# Altium footprint library test_lib.PcbLib: 32 footprints (part 1 of 3)
Each footprint in its own frame and in the unit in brackets; x right, y up, seen from the top. Pads: shape width x height; smd on the part's side, far side on the other; paste and mask are expansions set on the pad; w line width, h text height; cw(c..) or ccw(c..) is an arc to the next point about the centre after c.
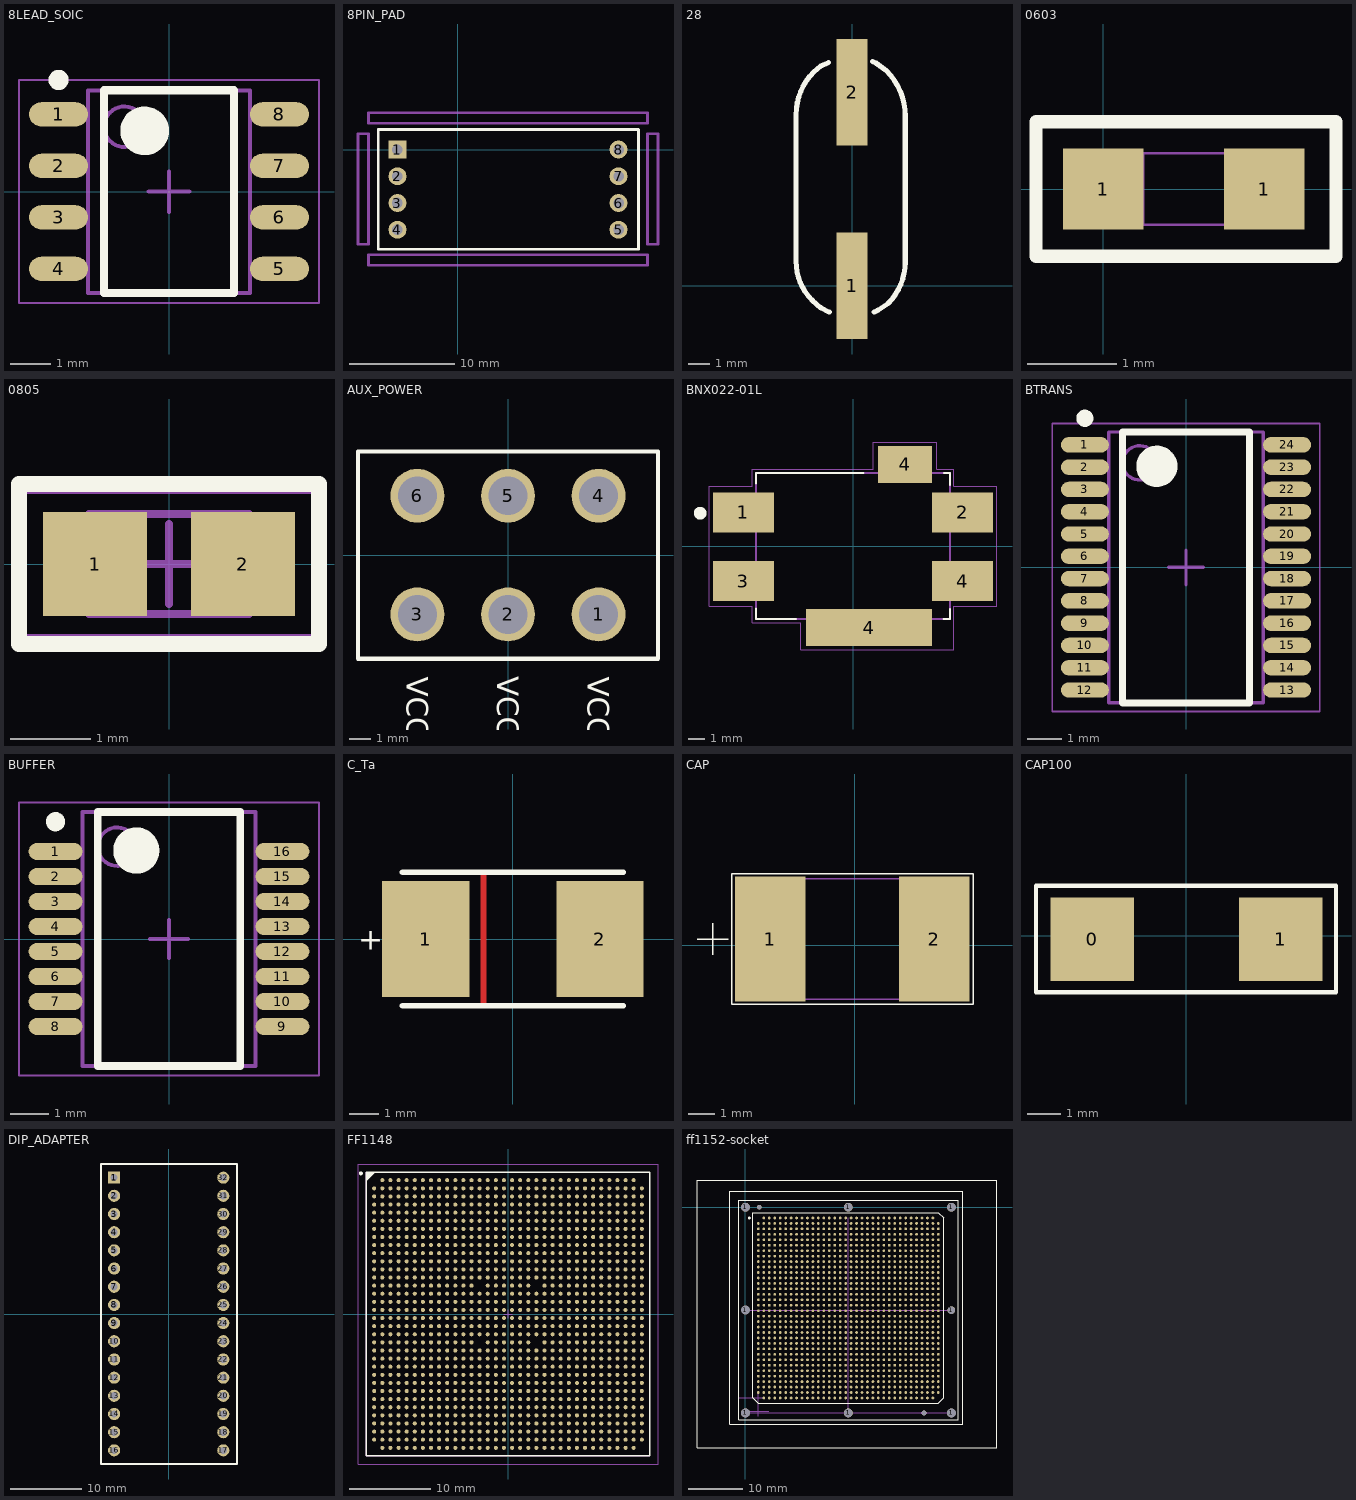
[diagram p0: the footprints below, top view; thin cyan lines are the x and y axes]

## 8LEAD_SOIC [mm] "8LEAD SOIC ANALOG DEVICES"
height 1.75
pads (8):
  oval 1.45x0.6 smd: 1(-2.725,1.905) 2(-2.725,0.635) 3(-2.725,-0.635) 4(-2.725,-1.905) 5(2.725,-1.905) 6(2.725,-0.635) 7(2.725,0.635) 8(2.725,1.905)
Top Overlay:
  circle w0.6: c-0.6,1.5 r0.3
  circle w0.25: c-2.725,2.755 r0.125
  lines w0.2: -1.6,-2.5 1.6,-2.5 1.6,2.5 -1.6,2.5 -1.6,-2.5
Mechanical 13:
  circle w0.1: c-1.1,1.6 r0.5
  lines w0.1: -2,-2.5 2,-2.5 2,2.5 -2,2.5 -2,-2.5
Mechanical 15:
  lines w0.05: -3.7,-2.75 3.7,-2.75 3.7,2.75 -3.7,2.75 -3.7,-2.75
  lines w0.1: -0.5,0 0.5,0 ; 0,-0.5 0,0.5
3D body: height 1.75, standoff 0.1, extent -2,-2.5 2,2.5

## 8PIN_PAD [mm]
pads (8):
  rect 1.7x1.7 hole 1: 1(-5.75,0)
  round 1.7 hole 1: 2(-5.75,-2.54) 3(-5.75,-5.08) 4(-5.75,-7.62) 5(15.25,-7.62) 6(15.25,-5.08) 7(15.25,-2.54) 8(15.25,0)
Top Overlay:
  lines w0.254: -7.575,-9.475 -1.825,-9.475 15.78,-9.475 17.155,-9.475 17.155,1.905 -1.825,1.905 -7.575,1.905 -7.575,-9.475
Mechanical 1:
  lines w0.254: -9.5,-9 -8.5,-9 -8.5,1.5 -9.5,1.5 -9.5,-9 ; -8.5,-11 18,-11 18,-10 -8.5,-10 -8.5,-11 ; -8.5,2.5 -8.5,3.5 18,3.5 18,2.5 -8.5,2.5 ; 18,-9 18,1.5 19,1.5 19,-9 18,-9

## 28 [mm]
height 3.5
pads (2):
  rect 1.45x4.95 smd: 1(0,0) 2(0,9)
Top Overlay:
  lines w0.24: -2.6,2.775 -2.6,7.958 cw(c0.217,7.958) -1.775,9.95 -1.45,10.225 -1.1,10.375 ; -2.6,2.85 -2.6,1.136 ccw(c-0.039,1.136) -1.85,-0.675 -1.45,-1.025 -1.05,-1.225 ; 0.95,10.425 1.125,10.35 1.6,10 cw(c-0.512,7.888) 2.475,7.888 2.475,5.05 2.475,1.106 cw(c-0.256,1.106) 1.675,-0.825 1.225,-1.125 1.025,-1.225

## 0603 [mm] "0603 footprint"
pads (2):
  rect 0.9x0.9 smd: 1(0,0)
  rect 0.9x0.9 smd mask+0.102: 1(1.8,0)
Top Overlay:
  lines w0.15: -0.75,-0.75 -0.75,0.75 2.6,0.75 2.6,0.375 2.6,-0.375 2.6,-0.75 -0.75,-0.75
Mechanical 1:
  lines w0.025: 0.15,0.4 0.15,-0.4 1.75,-0.4 1.75,0.4 0.16,0.4 ; 1.46,-0.4 1.46,0.4
Mechanical 2:
  lines w0.025: 0.45,-0.4 0.45,0.4

## 0805 [mm]
height 0.4
pads (2):
  rect 1.3x1.3 smd: 1(-0.925,0) 2(0.925,0)
Top Overlay:
  lines w0.2: -1.875,-1 -1.875,1 1.875,1 1.875,-1 -1.875,-1
Mechanical 13:
  lines w0.1: -1,-0.625 1,-0.625 1,0.625 -1,0.625 -1,-0.625
Mechanical 15:
  lines w0.05: -1.825,-0.9 1.825,-0.9 1.825,0.9 -1.825,0.9 -1.825,-0.9
  lines w0.1: -0.5,0 0.5,0 ; 0,-0.5 0,0.5
3D body: height 0.4, standoff 0, extent -1,-0.625 1,0.625

## AUX_POWER [mm] "auxiliary power port"
pads (6):
  round 2.5 hole 1.8: 1(4.2,-2.75) 2(0,-2.75) 3(-4.2,-2.75) 4(4.2,2.75) 5(0,2.75) 6(-4.2,2.75)
Top Overlay:
  lines w0.2: -6.95,-4.8 -6.95,4.8 6.95,4.8 6.95,-4.8 -6.95,-4.8
  text "VCC1" at 3.7,-5.625 h1
  text "VCC2" at -0.5,-5.625 h1
  text "VCC3-" at -4.7,-5.625 h1

## BNX022-01L [mm] "emi suppression filter"
pads (6):
  rect 3.8x2.5 smd: 1(-6.85,2.1) 2(6.85,2.1) 3(-6.85,-2.2) 4(6.85,-2.2)
  rect 7.9x2.3 smd: 4(1,-5.1)
  rect 3.4x2.3 smd: 4(3.25,5.1)
Top Overlay:
  circle w0.4: c-9.55,2.05 r0.2
  lines w0.127: -6.05,-3.9 -6.05,-4.55 -3.55,-4.55 ; -6.05,3.9 -6.05,4.55 0.65,4.55 ; 5.65,-4.55 6.05,-4.55 6.05,-3.95 ; 5.7,4.55 6.05,4.55 6.05,3.8
Top Solder:
  region: 1.552,6.25 4.95,6.25 4.95,3.955 1.552,3.955
  region: 4.959,3.35 8.75,3.35 8.75,0.851 4.959,0.851
  region: 4.956,-0.95 8.75,-0.95 8.75,-3.454 4.956,-3.454
  region: -2.953,-3.95 4.95,-3.95 4.95,-6.256 -2.953,-6.256
  region: -8.75,-0.95 -4.95,-0.95 -4.95,-3.45 -8.75,-3.45
  region: -8.757,3.35 -4.95,3.35 -4.95,0.851 -8.757,0.851
Mechanical 4:
  lines w0.127: -6.05,-4.55 6.05,-4.55 ; -6.05,-4.55 -6.05,4.55 ; -6.05,-4.55 6.05,-4.55 ; -6.05,-4.55 -6.05,4.55 ; -6.05,4.55 6.05,4.55 ; -6.05,4.55 6.05,4.55 ; 6.05,-4.55 6.05,4.55 ; 6.05,-4.55 6.05,4.55
Mechanical 16:
  lines w0.05: -9,-3.75 -9,3.75 -6.3,3.75 -6.3,4.8 1.25,4.8 1.25,6.5 5.25,6.5 5.25,4.8 6.3,4.8 6.3,3.75 9,3.75 9,-3.75 6.3,-3.75 6.3,-6.5 -3.25,-6.5 -3.25,-4.8 -6.3,-4.8 -6.3,-3.75 -9,-3.75
3D body "User Library-BNX022.step": height 3.1, standoff 0, extent -6.05,-4.55 6.05,4.55

## BTRANS [mm]
height 1.2
pads (24):
  oval 1.4x0.45 smd: 1(-2.95,3.575) 2(-2.95,2.925) 3(-2.95,2.275) 4(-2.95,1.625) 5(-2.95,0.975) 6(-2.95,0.325) 7(-2.95,-0.325) 8(-2.95,-0.975) 9(-2.95,-1.625) 10(-2.95,-2.275) 11(-2.95,-2.925) 12(-2.95,-3.575) 13(2.95,-3.575) 14(2.95,-2.925) 15(2.95,-2.275) 16(2.95,-1.625) 17(2.95,-0.975) 18(2.95,-0.325) 19(2.95,0.325) 20(2.95,0.975) 21(2.95,1.625) 22(2.95,2.275) 23(2.95,2.925) 24(2.95,3.575)
Top Overlay:
  circle w0.25: c-2.95,4.35 r0.125
  circle w0.6: c-0.85,2.95 r0.3
  lines w0.2: -1.85,-3.95 -1.85,3.95 1.85,3.95 1.85,-3.95 -1.85,-3.95
Mechanical 13:
  circle w0.1: c-1.35,3.05 r0.5
  lines w0.1: -2.25,-3.95 -2.25,3.95 2.25,3.95 2.25,-3.95 -2.25,-3.95
Mechanical 15:
  lines w0.05: -3.9,-4.2 -3.9,4.2 3.9,4.2 3.9,-4.2 -3.9,-4.2
  lines w0.1: -0.5,0 0.5,0 ; 0,-0.5 0,0.5
3D body: height 1.2, standoff 0.05, extent -2.25,-3.95 2.25,3.95

## BUFFER [mm] "txs0108epwr voltage translator"
height 1.2
pads (16):
  oval 1.4x0.45 smd: 1(-2.95,2.275) 2(-2.95,1.625) 3(-2.95,0.975) 4(-2.95,0.325) 5(-2.95,-0.325) 6(-2.95,-0.975) 7(-2.95,-1.625) 8(-2.95,-2.275) 9(2.95,-2.275) 10(2.95,-1.625) 11(2.95,-0.975) 12(2.95,-0.325) 13(2.95,0.325) 14(2.95,0.975) 15(2.95,1.625) 16(2.95,2.275)
Top Overlay:
  circle w0.25: c-2.95,3.05 r0.125
  circle w0.6: c-0.85,2.3 r0.3
  lines w0.2: -1.85,-3.3 -1.85,3.3 1.85,3.3 1.85,-3.3 -1.85,-3.3
Mechanical 13:
  circle w0.1: c-1.35,2.4 r0.5
  lines w0.1: -2.25,-3.3 -2.25,3.3 2.25,3.3 2.25,-3.3 -2.25,-3.3
Mechanical 15:
  lines w0.05: -3.9,-3.55 -3.9,3.55 3.9,3.55 3.9,-3.55 -3.9,-3.55
  lines w0.1: -0.5,0 0.5,0 ; 0,-0.5 0,0.5
3D body: height 1.2, standoff 0.15, extent -2.25,-3.3 2.25,3.3

## C_Ta [mm]
pads (2):
  rect 3x4 smd: 1(-3,0) 2(3,0)
Top Layer:
  lines w0.2: -1.016,-2.159 -1.016,2.159
Top Overlay:
  lines w0.2: -3.8,-2.3 3.8,-2.3 ; -3.8,2.3 3.8,2.3
  text "+" at -5.334,-0.375 h0.75
3D body "CAPMP7343X430N.stp": height 4.3, standoff 0, extent -3.8,-2.3 3.8,2.3

## CAP [mm]
pads (2):
  rect 2.7x4.8 smd: 1(-3.238,0.24) 2(3.062,0.24)
Top Overlay:
  lines w0.05: -6.038,0.24 -4.838,0.24 ; -5.438,-0.36 -5.438,0.84 ; -4.698,-2.26 -4.698,2.74 4.552,2.74 4.552,-2.26 -4.698,-2.26
Mechanical 1:
  lines w0.05: -3.788,-2.06 -3.788,2.54 3.612,2.54 3.612,-2.06 -3.788,-2.06

## CAP100 [mm]
pads (2):
  rect 2.5x2.5 smd: 0(-2.812,-0.111) 1(2.838,-0.111)
Top Layer:
  lines w0.5: 2.236,-0.111 2.838,-0.111 2.838,-0.913
Top Overlay:
  lines w0.125: -4.5,-1.7 -4.5,1.5 4.5,1.5 4.5,-1.7 -4.5,-1.7

## DIP_ADAPTER [mm]
pads (32):
  rect 1.7x1.7 hole 1: 1(-7.625,19.1)
  round 1.7 hole 1: 2(-7.625,16.56) 3(-7.625,14.02) 4(-7.625,11.48) 5(-7.625,8.94) 6(-7.625,6.4) 7(-7.625,3.86) 8(-7.625,1.32) 9(-7.625,-1.22) 10(-7.625,-3.76) 11(-7.625,-6.3) 12(-7.625,-8.84) 13(-7.625,-11.38) 14(-7.625,-13.92) 15(-7.625,-16.46) 16(-7.625,-19) 17(7.625,-19) 18(7.625,-16.46) 19(7.625,-13.92) 20(7.625,-11.38) 21(7.625,-8.84) 22(7.625,-6.3) 23(7.625,-3.76) 24(7.625,-1.22) 25(7.625,1.32) 26(7.625,3.86) 27(7.625,6.4) 28(7.625,8.94) 29(7.625,11.48) 30(7.625,14.02) 31(7.625,16.56) 32(7.625,19.1)
Top Overlay:
  lines w0.254: -9.45,-20.905 9.53,-20.905 9.53,21.005 -9.45,21.005 -9.45,-20.905

## FF1148 [mm] "1148-Ball Flip Chip Fine Pitch Ball Grid Array (FF1148)"
height 3.4
pads (1148):
  round 0.5 smd: A2(-15.5,16.5) A3(-14.5,16.5) A4(-13.5,16.5) A5(-12.5,16.5) A6(-11.5,16.5) A7(-10.5,16.5) A8(-9.5,16.5) A9(-8.5,16.5) A10(-7.5,16.5) A11(-6.5,16.5) A12(-5.5,16.5) A13(-4.5,16.5) A14(-3.5,16.5) A15(-2.5,16.5) A16(-1.5,16.5) A17(-0.5,16.5) A18(0.5,16.5) A19(1.5,16.5) A20(2.5,16.5) A21(3.5,16.5) A22(4.5,16.5) A23(5.5,16.5) A24(6.5,16.5) A25(7.5,16.5) A26(8.5,16.5) A27(9.5,16.5) A28(10.5,16.5) A29(11.5,16.5) A30(12.5,16.5) A31(13.5,16.5) A32(14.5,16.5) A33(15.5,16.5) AA1(-16.5,-3.5) AA2(-15.5,-3.5) AA3(-14.5,-3.5) AA4(-13.5,-3.5) AA5(-12.5,-3.5) AA6(-11.5,-3.5) AA7(-10.5,-3.5) AA8(-9.5,-3.5) AA9(-8.5,-3.5) AA10(-7.5,-3.5) AA11(-6.5,-3.5) AA12(-5.5,-3.5) AA13(-4.5,-3.5) AA15(-2.5,-3.5) AA16(-1.5,-3.5) AA17(-0.5,-3.5) AA18(0.5,-3.5) AA19(1.5,-3.5) AA20(2.5,-3.5) AA22(4.5,-3.5) AA23(5.5,-3.5) AA24(6.5,-3.5) AA25(7.5,-3.5) AA26(8.5,-3.5) AA27(9.5,-3.5) AA28(10.5,-3.5) AA29(11.5,-3.5) AA30(12.5,-3.5) AA31(13.5,-3.5) AA32(14.5,-3.5) AA33(15.5,-3.5) AA34(16.5,-3.5) AB1(-16.5,-4.5) AB2(-15.5,-4.5) AB3(-14.5,-4.5) AB4(-13.5,-4.5) AB5(-12.5,-4.5) AB6(-11.5,-4.5) AB7(-10.5,-4.5) AB8(-9.5,-4.5) AB9(-8.5,-4.5) AB10(-7.5,-4.5) AB11(-6.5,-4.5) AB12(-5.5,-4.5) AB13(-4.5,-4.5) AB14(-3.5,-4.5) AB15(-2.5,-4.5) AB16(-1.5,-4.5) AB17(-0.5,-4.5) AB18(0.5,-4.5) AB19(1.5,-4.5) AB20(2.5,-4.5) AB21(3.5,-4.5) AB22(4.5,-4.5) AB23(5.5,-4.5) AB24(6.5,-4.5) AB25(7.5,-4.5) AB26(8.5,-4.5) AB27(9.5,-4.5) AB28(10.5,-4.5) AB29(11.5,-4.5) AB30(12.5,-4.5) AB31(13.5,-4.5) AB32(14.5,-4.5) AB33(15.5,-4.5) AB34(16.5,-4.5) AC1(-16.5,-5.5) AC2(-15.5,-5.5) AC3(-14.5,-5.5) AC4(-13.5,-5.5) AC5(-12.5,-5.5) AC6(-11.5,-5.5) AC7(-10.5,-5.5) AC8(-9.5,-5.5) AC9(-8.5,-5.5) AC10(-7.5,-5.5) AC11(-6.5,-5.5) AC12(-5.5,-5.5) AC13(-4.5,-5.5) AC14(-3.5,-5.5) AC15(-2.5,-5.5) AC16(-1.5,-5.5) AC17(-0.5,-5.5) AC18(0.5,-5.5) AC19(1.5,-5.5) AC20(2.5,-5.5) AC21(3.5,-5.5) AC22(4.5,-5.5) AC23(5.5,-5.5) AC24(6.5,-5.5) AC25(7.5,-5.5) AC26(8.5,-5.5) AC27(9.5,-5.5) AC28(10.5,-5.5) AC29(11.5,-5.5) AC30(12.5,-5.5) AC31(13.5,-5.5) AC32(14.5,-5.5) AC33(15.5,-5.5) AC34(16.5,-5.5) AD1(-16.5,-6.5) AD2(-15.5,-6.5) AD3(-14.5,-6.5) AD4(-13.5,-6.5) AD5(-12.5,-6.5) AD6(-11.5,-6.5) AD7(-10.5,-6.5) AD8(-9.5,-6.5) AD9(-8.5,-6.5) AD10(-7.5,-6.5) AD11(-6.5,-6.5) AD12(-5.5,-6.5) AD13(-4.5,-6.5) AD14(-3.5,-6.5) AD15(-2.5,-6.5) AD16(-1.5,-6.5) AD17(-0.5,-6.5) AD18(0.5,-6.5) AD19(1.5,-6.5) AD20(2.5,-6.5) AD21(3.5,-6.5) AD22(4.5,-6.5) AD23(5.5,-6.5) AD24(6.5,-6.5) AD25(7.5,-6.5) AD26(8.5,-6.5) AD27(9.5,-6.5) AD28(10.5,-6.5) AD29(11.5,-6.5) AD30(12.5,-6.5) AD31(13.5,-6.5) AD32(14.5,-6.5) AD33(15.5,-6.5) AD34(16.5,-6.5) AE1(-16.5,-7.5) AE2(-15.5,-7.5) AE3(-14.5,-7.5) AE4(-13.5,-7.5) AE5(-12.5,-7.5) AE6(-11.5,-7.5) AE7(-10.5,-7.5) AE8(-9.5,-7.5) AE9(-8.5,-7.5) AE10(-7.5,-7.5) AE11(-6.5,-7.5) AE12(-5.5,-7.5) AE13(-4.5,-7.5) AE14(-3.5,-7.5) AE15(-2.5,-7.5) AE16(-1.5,-7.5) AE17(-0.5,-7.5) AE18(0.5,-7.5) AE19(1.5,-7.5) AE20(2.5,-7.5) AE21(3.5,-7.5) AE22(4.5,-7.5) AE23(5.5,-7.5) AE24(6.5,-7.5) AE25(7.5,-7.5) AE26(8.5,-7.5) AE27(9.5,-7.5) AE28(10.5,-7.5) AE29(11.5,-7.5) AE30(12.5,-7.5) AE31(13.5,-7.5) AE32(14.5,-7.5) AE33(15.5,-7.5) AE34(16.5,-7.5) AF1(-16.5,-8.5) AF2(-15.5,-8.5) AF3(-14.5,-8.5) AF4(-13.5,-8.5) AF5(-12.5,-8.5) AF6(-11.5,-8.5) AF7(-10.5,-8.5) AF8(-9.5,-8.5) AF9(-8.5,-8.5) AF10(-7.5,-8.5) AF11(-6.5,-8.5) AF12(-5.5,-8.5) AF13(-4.5,-8.5) AF14(-3.5,-8.5) AF15(-2.5,-8.5) AF16(-1.5,-8.5) AF17(-0.5,-8.5) AF18(0.5,-8.5) AF19(1.5,-8.5) AF20(2.5,-8.5) AF21(3.5,-8.5) AF22(4.5,-8.5) AF23(5.5,-8.5) AF24(6.5,-8.5) AF25(7.5,-8.5) AF26(8.5,-8.5) AF27(9.5,-8.5) AF28(10.5,-8.5) AF29(11.5,-8.5) AF30(12.5,-8.5) AF31(13.5,-8.5) AF32(14.5,-8.5) AF33(15.5,-8.5) AF34(16.5,-8.5) AG1(-16.5,-9.5) AG2(-15.5,-9.5) AG3(-14.5,-9.5) AG4(-13.5,-9.5) AG5(-12.5,-9.5) AG6(-11.5,-9.5) AG7(-10.5,-9.5) AG8(-9.5,-9.5) AG9(-8.5,-9.5) AG10(-7.5,-9.5) AG11(-6.5,-9.5) AG12(-5.5,-9.5) AG13(-4.5,-9.5) AG14(-3.5,-9.5) AG15(-2.5,-9.5) AG16(-1.5,-9.5) AG17(-0.5,-9.5) AG18(0.5,-9.5) AG19(1.5,-9.5) AG20(2.5,-9.5) AG21(3.5,-9.5) AG22(4.5,-9.5) AG23(5.5,-9.5) AG24(6.5,-9.5) AG25(7.5,-9.5) AG26(8.5,-9.5) AG27(9.5,-9.5) AG28(10.5,-9.5) AG29(11.5,-9.5) AG30(12.5,-9.5) AG31(13.5,-9.5) AG32(14.5,-9.5) AG33(15.5,-9.5) AG34(16.5,-9.5) AH1(-16.5,-10.5) AH2(-15.5,-10.5) AH3(-14.5,-10.5) AH4(-13.5,-10.5) AH5(-12.5,-10.5) AH6(-11.5,-10.5) AH7(-10.5,-10.5) AH8(-9.5,-10.5) AH9(-8.5,-10.5) AH10(-7.5,-10.5) AH11(-6.5,-10.5) AH12(-5.5,-10.5) AH13(-4.5,-10.5) AH14(-3.5,-10.5) AH15(-2.5,-10.5) AH16(-1.5,-10.5) AH17(-0.5,-10.5) AH18(0.5,-10.5) AH19(1.5,-10.5) AH20(2.5,-10.5) AH21(3.5,-10.5) AH22(4.5,-10.5) AH23(5.5,-10.5) AH24(6.5,-10.5) AH25(7.5,-10.5) AH26(8.5,-10.5) AH27(9.5,-10.5) AH28(10.5,-10.5) AH29(11.5,-10.5) AH30(12.5,-10.5) AH31(13.5,-10.5) AH32(14.5,-10.5) AH33(15.5,-10.5) AH34(16.5,-10.5) AJ1(-16.5,-11.5) AJ2(-15.5,-11.5) AJ3(-14.5,-11.5) AJ4(-13.5,-11.5) AJ5(-12.5,-11.5) AJ6(-11.5,-11.5) AJ7(-10.5,-11.5) AJ8(-9.5,-11.5) AJ9(-8.5,-11.5) AJ10(-7.5,-11.5) AJ11(-6.5,-11.5) AJ12(-5.5,-11.5) AJ13(-4.5,-11.5) AJ14(-3.5,-11.5) AJ15(-2.5,-11.5) AJ16(-1.5,-11.5) AJ17(-0.5,-11.5) AJ18(0.5,-11.5) AJ19(1.5,-11.5) AJ20(2.5,-11.5) AJ21(3.5,-11.5) AJ22(4.5,-11.5) AJ23(5.5,-11.5) AJ24(6.5,-11.5) AJ25(7.5,-11.5) AJ26(8.5,-11.5) AJ27(9.5,-11.5) AJ28(10.5,-11.5) AJ29(11.5,-11.5) AJ30(12.5,-11.5) AJ31(13.5,-11.5) AJ32(14.5,-11.5) AJ33(15.5,-11.5) AJ34(16.5,-11.5) AK1(-16.5,-12.5) AK2(-15.5,-12.5) AK3(-14.5,-12.5) AK4(-13.5,-12.5) AK5(-12.5,-12.5) AK6(-11.5,-12.5) AK7(-10.5,-12.5) AK8(-9.5,-12.5) AK9(-8.5,-12.5) AK10(-7.5,-12.5) AK11(-6.5,-12.5) AK12(-5.5,-12.5) AK13(-4.5,-12.5) AK14(-3.5,-12.5) AK15(-2.5,-12.5) AK16(-1.5,-12.5) AK17(-0.5,-12.5) AK18(0.5,-12.5) AK19(1.5,-12.5) AK20(2.5,-12.5) AK21(3.5,-12.5) AK22(4.5,-12.5) AK23(5.5,-12.5) AK24(6.5,-12.5) AK25(7.5,-12.5) AK26(8.5,-12.5) AK27(9.5,-12.5) AK28(10.5,-12.5) AK29(11.5,-12.5) AK30(12.5,-12.5) AK31(13.5,-12.5) AK32(14.5,-12.5) AK33(15.5,-12.5) AK34(16.5,-12.5) AL1(-16.5,-13.5) AL2(-15.5,-13.5) AL3(-14.5,-13.5) AL4(-13.5,-13.5) AL5(-12.5,-13.5) AL6(-11.5,-13.5) AL7(-10.5,-13.5) AL8(-9.5,-13.5) AL9(-8.5,-13.5) AL10(-7.5,-13.5) AL11(-6.5,-13.5) AL12(-5.5,-13.5) AL13(-4.5,-13.5) AL14(-3.5,-13.5) AL15(-2.5,-13.5) AL16(-1.5,-13.5) AL17(-0.5,-13.5) AL18(0.5,-13.5) AL19(1.5,-13.5) AL20(2.5,-13.5) AL21(3.5,-13.5) AL22(4.5,-13.5) AL23(5.5,-13.5) AL24(6.5,-13.5) AL25(7.5,-13.5) AL26(8.5,-13.5) AL27(9.5,-13.5) AL28(10.5,-13.5) AL29(11.5,-13.5) AL30(12.5,-13.5) AL31(13.5,-13.5) AL32(14.5,-13.5) AL33(15.5,-13.5) AL34(16.5,-13.5) AM1(-16.5,-14.5) AM2(-15.5,-14.5) AM3(-14.5,-14.5) AM4(-13.5,-14.5) AM5(-12.5,-14.5) AM6(-11.5,-14.5) AM7(-10.5,-14.5) AM8(-9.5,-14.5) AM9(-8.5,-14.5) AM10(-7.5,-14.5) AM11(-6.5,-14.5) AM12(-5.5,-14.5) AM13(-4.5,-14.5) AM14(-3.5,-14.5) AM15(-2.5,-14.5) AM16(-1.5,-14.5) AM17(-0.5,-14.5) AM18(0.5,-14.5) AM19(1.5,-14.5) AM20(2.5,-14.5) AM21(3.5,-14.5) AM22(4.5,-14.5) AM23(5.5,-14.5) AM24(6.5,-14.5) AM25(7.5,-14.5) AM26(8.5,-14.5) AM27(9.5,-14.5) AM28(10.5,-14.5) AM29(11.5,-14.5) AM30(12.5,-14.5) AM31(13.5,-14.5) AM32(14.5,-14.5) AM33(15.5,-14.5) AM34(16.5,-14.5) AN1(-16.5,-15.5) AN2(-15.5,-15.5) AN3(-14.5,-15.5) AN4(-13.5,-15.5) AN5(-12.5,-15.5) AN6(-11.5,-15.5) AN7(-10.5,-15.5) AN8(-9.5,-15.5) AN9(-8.5,-15.5) AN10(-7.5,-15.5) AN11(-6.5,-15.5) AN12(-5.5,-15.5) AN13(-4.5,-15.5) AN14(-3.5,-15.5) AN15(-2.5,-15.5) AN16(-1.5,-15.5) AN17(-0.5,-15.5) AN18(0.5,-15.5) AN19(1.5,-15.5) AN20(2.5,-15.5) AN21(3.5,-15.5) AN22(4.5,-15.5) AN23(5.5,-15.5) AN24(6.5,-15.5) AN25(7.5,-15.5) AN26(8.5,-15.5) AN27(9.5,-15.5) AN28(10.5,-15.5) AN29(11.5,-15.5) AN30(12.5,-15.5) AN31(13.5,-15.5) AN32(14.5,-15.5) AN33(15.5,-15.5) AN34(16.5,-15.5) AP2(-15.5,-16.5) AP3(-14.5,-16.5) AP4(-13.5,-16.5) AP5(-12.5,-16.5) AP6(-11.5,-16.5) AP7(-10.5,-16.5) AP8(-9.5,-16.5) AP9(-8.5,-16.5) AP10(-7.5,-16.5) AP11(-6.5,-16.5) AP12(-5.5,-16.5) AP13(-4.5,-16.5) AP14(-3.5,-16.5) AP15(-2.5,-16.5) AP16(-1.5,-16.5) AP17(-0.5,-16.5) AP18(0.5,-16.5) AP19(1.5,-16.5) AP20(2.5,-16.5) AP21(3.5,-16.5) AP22(4.5,-16.5) AP23(5.5,-16.5) AP24(6.5,-16.5) AP25(7.5,-16.5) AP26(8.5,-16.5) AP27(9.5,-16.5) AP28(10.5,-16.5) AP29(11.5,-16.5) AP30(12.5,-16.5) AP31(13.5,-16.5) AP32(14.5,-16.5) AP33(15.5,-16.5) B1(-16.5,15.5) B2(-15.5,15.5) B3(-14.5,15.5) B4(-13.5,15.5) B5(-12.5,15.5) B6(-11.5,15.5) B7(-10.5,15.5) B8(-9.5,15.5) B9(-8.5,15.5) B10(-7.5,15.5) B11(-6.5,15.5) B12(-5.5,15.5) B13(-4.5,15.5) B14(-3.5,15.5) B15(-2.5,15.5) B16(-1.5,15.5) B17(-0.5,15.5) B18(0.5,15.5) B19(1.5,15.5) B20(2.5,15.5) B21(3.5,15.5) B22(4.5,15.5) B23(5.5,15.5) B24(6.5,15.5) B25(7.5,15.5) B26(8.5,15.5) B27(9.5,15.5) B28(10.5,15.5) B29(11.5,15.5) B30(12.5,15.5) B31(13.5,15.5) B32(14.5,15.5) B33(15.5,15.5) B34(16.5,15.5) C1(-16.5,14.5) C2(-15.5,14.5) C3(-14.5,14.5) C4(-13.5,14.5) C5(-12.5,14.5) C6(-11.5,14.5) C7(-10.5,14.5) C8(-9.5,14.5) C9(-8.5,14.5) C10(-7.5,14.5) C11(-6.5,14.5) C12(-5.5,14.5) C13(-4.5,14.5) C14(-3.5,14.5) C15(-2.5,14.5) C16(-1.5,14.5) C17(-0.5,14.5) C18(0.5,14.5) C19(1.5,14.5) C20(2.5,14.5) C21(3.5,14.5) C22(4.5,14.5) C23(5.5,14.5) C24(6.5,14.5) C25(7.5,14.5) C26(8.5,14.5) C27(9.5,14.5) C28(10.5,14.5) C29(11.5,14.5) C30(12.5,14.5) C31(13.5,14.5) C32(14.5,14.5) C33(15.5,14.5) C34(16.5,14.5) D1(-16.5,13.5) D2(-15.5,13.5) D3(-14.5,13.5) D4(-13.5,13.5) D5(-12.5,13.5) D6(-11.5,13.5) D7(-10.5,13.5) D8(-9.5,13.5) D9(-8.5,13.5) D10(-7.5,13.5) D11(-6.5,13.5) D12(-5.5,13.5) D13(-4.5,13.5) D14(-3.5,13.5) D15(-2.5,13.5) D16(-1.5,13.5) D17(-0.5,13.5) D18(0.5,13.5) D19(1.5,13.5) D20(2.5,13.5) D21(3.5,13.5) D22(4.5,13.5) D23(5.5,13.5) D24(6.5,13.5) D25(7.5,13.5) D26(8.5,13.5) D27(9.5,13.5) D28(10.5,13.5) D29(11.5,13.5) D30(12.5,13.5) D31(13.5,13.5) D32(14.5,13.5) D33(15.5,13.5) D34(16.5,13.5) E1(-16.5,12.5) E2(-15.5,12.5) E3(-14.5,12.5) E4(-13.5,12.5) E5(-12.5,12.5) E6(-11.5,12.5) E7(-10.5,12.5) E8(-9.5,12.5) E9(-8.5,12.5) E10(-7.5,12.5) E11(-6.5,12.5) E12(-5.5,12.5) E13(-4.5,12.5) E14(-3.5,12.5) E15(-2.5,12.5) E16(-1.5,12.5) E17(-0.5,12.5) E18(0.5,12.5) E19(1.5,12.5) E20(2.5,12.5) E21(3.5,12.5) E22(4.5,12.5) E23(5.5,12.5) E24(6.5,12.5) E25(7.5,12.5) E26(8.5,12.5) E27(9.5,12.5) E28(10.5,12.5) E29(11.5,12.5) E30(12.5,12.5) E31(13.5,12.5) E32(14.5,12.5) E33(15.5,12.5) E34(16.5,12.5) F1(-16.5,11.5) F2(-15.5,11.5) F3(-14.5,11.5) F4(-13.5,11.5) F5(-12.5,11.5) F6(-11.5,11.5) F7(-10.5,11.5) F8(-9.5,11.5) F9(-8.5,11.5) F10(-7.5,11.5) F11(-6.5,11.5) F12(-5.5,11.5) F13(-4.5,11.5) F14(-3.5,11.5) F15(-2.5,11.5) F16(-1.5,11.5) F17(-0.5,11.5) F18(0.5,11.5) F19(1.5,11.5) F20(2.5,11.5) F21(3.5,11.5) F22(4.5,11.5) F23(5.5,11.5) F24(6.5,11.5) F25(7.5,11.5) F26(8.5,11.5) F27(9.5,11.5) F28(10.5,11.5) F29(11.5,11.5) F30(12.5,11.5) F31(13.5,11.5) F32(14.5,11.5) F33(15.5,11.5) F34(16.5,11.5) G1(-16.5,10.5) G2(-15.5,10.5) G3(-14.5,10.5) G4(-13.5,10.5) G5(-12.5,10.5) G6(-11.5,10.5) G7(-10.5,10.5) G8(-9.5,10.5) G9(-8.5,10.5) G10(-7.5,10.5) G11(-6.5,10.5) G12(-5.5,10.5) G13(-4.5,10.5) G14(-3.5,10.5) G15(-2.5,10.5) G16(-1.5,10.5) G17(-0.5,10.5) G18(0.5,10.5) G19(1.5,10.5) G20(2.5,10.5) G21(3.5,10.5) G22(4.5,10.5) G23(5.5,10.5) G24(6.5,10.5) G25(7.5,10.5) G26(8.5,10.5) G27(9.5,10.5) G28(10.5,10.5) G29(11.5,10.5) G30(12.5,10.5) G31(13.5,10.5) G32(14.5,10.5) G33(15.5,10.5) G34(16.5,10.5) H1(-16.5,9.5) H2(-15.5,9.5) H3(-14.5,9.5) H4(-13.5,9.5) H5(-12.5,9.5) H6(-11.5,9.5) H7(-10.5,9.5) H8(-9.5,9.5) H9(-8.5,9.5) H10(-7.5,9.5) H11(-6.5,9.5) H12(-5.5,9.5) H13(-4.5,9.5) H14(-3.5,9.5) H15(-2.5,9.5) H16(-1.5,9.5) H17(-0.5,9.5) H18(0.5,9.5) H19(1.5,9.5) H20(2.5,9.5) H21(3.5,9.5) H22(4.5,9.5) H23(5.5,9.5) H24(6.5,9.5) H25(7.5,9.5) H26(8.5,9.5) H27(9.5,9.5) H28(10.5,9.5) H29(11.5,9.5) H30(12.5,9.5) H31(13.5,9.5) H32(14.5,9.5) H33(15.5,9.5) H34(16.5,9.5) J1(-16.5,8.5) J2(-15.5,8.5) J3(-14.5,8.5) J4(-13.5,8.5) J5(-12.5,8.5) J6(-11.5,8.5) J7(-10.5,8.5) J8(-9.5,8.5) J9(-8.5,8.5) J10(-7.5,8.5) J11(-6.5,8.5) J12(-5.5,8.5) J13(-4.5,8.5) J14(-3.5,8.5) J15(-2.5,8.5) J16(-1.5,8.5) J17(-0.5,8.5) J18(0.5,8.5) J19(1.5,8.5) J20(2.5,8.5) J21(3.5,8.5) J22(4.5,8.5) J23(5.5,8.5) J24(6.5,8.5) J25(7.5,8.5) J26(8.5,8.5) J27(9.5,8.5) J28(10.5,8.5) J29(11.5,8.5) J30(12.5,8.5) J31(13.5,8.5) J32(14.5,8.5) J33(15.5,8.5) J34(16.5,8.5) K1(-16.5,7.5) K2(-15.5,7.5) K3(-14.5,7.5) K4(-13.5,7.5) K5(-12.5,7.5) K6(-11.5,7.5) K7(-10.5,7.5) K8(-9.5,7.5) K9(-8.5,7.5) K10(-7.5,7.5) K11(-6.5,7.5) K12(-5.5,7.5) K13(-4.5,7.5) K14(-3.5,7.5) K15(-2.5,7.5) K16(-1.5,7.5) K17(-0.5,7.5) K18(0.5,7.5) K19(1.5,7.5) K20(2.5,7.5) K21(3.5,7.5) K22(4.5,7.5) K23(5.5,7.5) K24(6.5,7.5) K25(7.5,7.5) K26(8.5,7.5) K27(9.5,7.5) K28(10.5,7.5) K29(11.5,7.5) K30(12.5,7.5) K31(13.5,7.5) K32(14.5,7.5) K33(15.5,7.5) K34(16.5,7.5) L1(-16.5,6.5) L2(-15.5,6.5) L3(-14.5,6.5) L4(-13.5,6.5) L5(-12.5,6.5) L6(-11.5,6.5) L7(-10.5,6.5) L8(-9.5,6.5) L9(-8.5,6.5) L10(-7.5,6.5) L11(-6.5,6.5) L12(-5.5,6.5) L13(-4.5,6.5) L14(-3.5,6.5) L15(-2.5,6.5) L16(-1.5,6.5) L17(-0.5,6.5) L18(0.5,6.5) L19(1.5,6.5) L20(2.5,6.5) L21(3.5,6.5) L22(4.5,6.5) L23(5.5,6.5) L24(6.5,6.5) L25(7.5,6.5) L26(8.5,6.5) L27(9.5,6.5) L28(10.5,6.5) L29(11.5,6.5) L30(12.5,6.5) L31(13.5,6.5) L32(14.5,6.5) L33(15.5,6.5) L34(16.5,6.5) M1(-16.5,5.5) M2(-15.5,5.5) M3(-14.5,5.5) M4(-13.5,5.5) M5(-12.5,5.5) M6(-11.5,5.5) M7(-10.5,5.5) M8(-9.5,5.5) M9(-8.5,5.5) M10(-7.5,5.5) M11(-6.5,5.5) M12(-5.5,5.5) M13(-4.5,5.5) M14(-3.5,5.5) M15(-2.5,5.5) M16(-1.5,5.5) M17(-0.5,5.5) M18(0.5,5.5) M19(1.5,5.5) M20(2.5,5.5) M21(3.5,5.5) M22(4.5,5.5) M23(5.5,5.5) M24(6.5,5.5) M25(7.5,5.5) M26(8.5,5.5) M27(9.5,5.5) M28(10.5,5.5) M29(11.5,5.5) M30(12.5,5.5) M31(13.5,5.5) M32(14.5,5.5) M33(15.5,5.5) M34(16.5,5.5) N1(-16.5,4.5) N2(-15.5,4.5) N3(-14.5,4.5) N4(-13.5,4.5) N5(-12.5,4.5) N6(-11.5,4.5) N7(-10.5,4.5) N8(-9.5,4.5) N9(-8.5,4.5) N10(-7.5,4.5) N11(-6.5,4.5) N12(-5.5,4.5) N13(-4.5,4.5) N14(-3.5,4.5) N15(-2.5,4.5) N16(-1.5,4.5) N17(-0.5,4.5) N18(0.5,4.5) N19(1.5,4.5) N20(2.5,4.5) N21(3.5,4.5) N22(4.5,4.5) N23(5.5,4.5) N24(6.5,4.5) N25(7.5,4.5) N26(8.5,4.5) N27(9.5,4.5) N28(10.5,4.5) N29(11.5,4.5) N30(12.5,4.5) N31(13.5,4.5) N32(14.5,4.5) N33(15.5,4.5) N34(16.5,4.5) P1(-16.5,3.5) P2(-15.5,3.5) P3(-14.5,3.5) P4(-13.5,3.5) P5(-12.5,3.5) P6(-11.5,3.5) P7(-10.5,3.5) P8(-9.5,3.5) P9(-8.5,3.5) P10(-7.5,3.5) P11(-6.5,3.5) P12(-5.5,3.5) P13(-4.5,3.5) P15(-2.5,3.5) P16(-1.5,3.5) P17(-0.5,3.5) P18(0.5,3.5) P19(1.5,3.5) P20(2.5,3.5) P22(4.5,3.5) P23(5.5,3.5) P24(6.5,3.5) P25(7.5,3.5) P26(8.5,3.5) P27(9.5,3.5) P28(10.5,3.5) P29(11.5,3.5) P30(12.5,3.5) P31(13.5,3.5) P32(14.5,3.5) P33(15.5,3.5) P34(16.5,3.5) R1(-16.5,2.5) R2(-15.5,2.5) R3(-14.5,2.5) R4(-13.5,2.5) R5(-12.5,2.5) R6(-11.5,2.5) R7(-10.5,2.5) R8(-9.5,2.5) R9(-8.5,2.5) R10(-7.5,2.5) R11(-6.5,2.5) R12(-5.5,2.5) R13(-4.5,2.5) R14(-3.5,2.5) R15(-2.5,2.5) R16(-1.5,2.5) R17(-0.5,2.5) R18(0.5,2.5) R19(1.5,2.5) R20(2.5,2.5) R21(3.5,2.5) R22(4.5,2.5) R23(5.5,2.5) R24(6.5,2.5) R25(7.5,2.5) R26(8.5,2.5) R27(9.5,2.5) R28(10.5,2.5) R29(11.5,2.5) R30(12.5,2.5) R31(13.5,2.5) R32(14.5,2.5) R33(15.5,2.5) R34(16.5,2.5) T1(-16.5,1.5) T2(-15.5,1.5) T3(-14.5,1.5) T4(-13.5,1.5) T5(-12.5,1.5) T6(-11.5,1.5) T7(-10.5,1.5) T8(-9.5,1.5) T9(-8.5,1.5) T10(-7.5,1.5) T11(-6.5,1.5) T12(-5.5,1.5) T13(-4.5,1.5) T14(-3.5,1.5) T15(-2.5,1.5) T16(-1.5,1.5) T17(-0.5,1.5) T18(0.5,1.5) T19(1.5,1.5) T20(2.5,1.5) T21(3.5,1.5) T22(4.5,1.5) T23(5.5,1.5) T24(6.5,1.5) T25(7.5,1.5) T26(8.5,1.5) T27(9.5,1.5) T28(10.5,1.5) T29(11.5,1.5) T30(12.5,1.5) T31(13.5,1.5) T32(14.5,1.5) T33(15.5,1.5) T34(16.5,1.5) U1(-16.5,0.5) U2(-15.5,0.5) U3(-14.5,0.5) U4(-13.5,0.5) U5(-12.5,0.5) U6(-11.5,0.5) U7(-10.5,0.5) U8(-9.5,0.5) U9(-8.5,0.5) U10(-7.5,0.5) U11(-6.5,0.5) U12(-5.5,0.5) U13(-4.5,0.5) U14(-3.5,0.5) U15(-2.5,0.5) U16(-1.5,0.5) U17(-0.5,0.5) U18(0.5,0.5) U19(1.5,0.5) U20(2.5,0.5) U21(3.5,0.5) U22(4.5,0.5) U23(5.5,0.5) U24(6.5,0.5) U25(7.5,0.5) U26(8.5,0.5) U27(9.5,0.5) U28(10.5,0.5) U29(11.5,0.5) U30(12.5,0.5) U31(13.5,0.5) U32(14.5,0.5) U33(15.5,0.5) U34(16.5,0.5) V1(-16.5,-0.5) V2(-15.5,-0.5) V3(-14.5,-0.5) V4(-13.5,-0.5) V5(-12.5,-0.5) V6(-11.5,-0.5) V7(-10.5,-0.5) V8(-9.5,-0.5) V9(-8.5,-0.5) V10(-7.5,-0.5) V11(-6.5,-0.5) V12(-5.5,-0.5) V13(-4.5,-0.5) V14(-3.5,-0.5) V15(-2.5,-0.5) V16(-1.5,-0.5) V17(-0.5,-0.5) V18(0.5,-0.5) V19(1.5,-0.5) V20(2.5,-0.5) V21(3.5,-0.5) V22(4.5,-0.5) V23(5.5,-0.5) V24(6.5,-0.5) V25(7.5,-0.5) V26(8.5,-0.5) V27(9.5,-0.5) V28(10.5,-0.5) V29(11.5,-0.5) V30(12.5,-0.5) V31(13.5,-0.5) V32(14.5,-0.5) V33(15.5,-0.5) V34(16.5,-0.5) W1(-16.5,-1.5) W2(-15.5,-1.5) W3(-14.5,-1.5) W4(-13.5,-1.5) W5(-12.5,-1.5) W6(-11.5,-1.5) W7(-10.5,-1.5) W8(-9.5,-1.5) W9(-8.5,-1.5) W10(-7.5,-1.5) W11(-6.5,-1.5) W12(-5.5,-1.5) W13(-4.5,-1.5) W14(-3.5,-1.5) W15(-2.5,-1.5) W16(-1.5,-1.5) W17(-0.5,-1.5) W18(0.5,-1.5) W19(1.5,-1.5) W20(2.5,-1.5) W21(3.5,-1.5) W22(4.5,-1.5) W23(5.5,-1.5) W24(6.5,-1.5) W25(7.5,-1.5) W26(8.5,-1.5) W27(9.5,-1.5) W28(10.5,-1.5) W29(11.5,-1.5) W30(12.5,-1.5) W31(13.5,-1.5) W32(14.5,-1.5) W33(15.5,-1.5) W34(16.5,-1.5) Y1(-16.5,-2.5) Y2(-15.5,-2.5) Y3(-14.5,-2.5) Y4(-13.5,-2.5) Y5(-12.5,-2.5) Y6(-11.5,-2.5) Y7(-10.5,-2.5) Y8(-9.5,-2.5) Y9(-8.5,-2.5) Y10(-7.5,-2.5) Y11(-6.5,-2.5) Y12(-5.5,-2.5) Y13(-4.5,-2.5) Y14(-3.5,-2.5) Y15(-2.5,-2.5) Y16(-1.5,-2.5) Y17(-0.5,-2.5) Y18(0.5,-2.5) Y19(1.5,-2.5) Y20(2.5,-2.5) Y21(3.5,-2.5) Y22(4.5,-2.5) Y23(5.5,-2.5) Y24(6.5,-2.5) Y25(7.5,-2.5) Y26(8.5,-2.5) Y27(9.5,-2.5) Y28(10.5,-2.5) Y29(11.5,-2.5) Y30(12.5,-2.5) Y31(13.5,-2.5) Y32(14.5,-2.5) Y33(15.5,-2.5) Y34(16.5,-2.5)
Top Overlay:
  circle w0.25: c-18.15,17.35 r0.125
  region: -16.5,17.5 -17.5,16.5 -17.5,17.5
  lines w0.2: -17.5,16.5 -16.5,17.5 ; -17.5,-17.5 -17.5,17.5 17.5,17.5 17.5,-17.5 -17.5,-17.5
Mechanical 13:
  lines w0.1: -17.5,-17.5 -17.5,17.5 17.5,17.5 17.5,-17.5 -17.5,-17.5
Mechanical 15:
  lines w0.05: -18.5,-18.5 -18.5,18.5 18.5,18.5 18.5,-18.5 -18.5,-18.5
  lines w0.1: -0.5,0 0.5,0 ; 0,-0.5 0,0.5
3D body: height 3.4, standoff 0, extent -17.5,-17.5 17.5,17.5

## ff1152-socket [mm]
pads (1162):
  round 1.61 hole 1.61 unplated: 1(0,-37.72) 1(0,0) 1(18.853,-37.717) 1(18.853,0) 1(37.753,-37.717) 1(37.753,0)
  round 1.4 hole 1.61 unplated: 1(0,-18.86)
  round 1.4 hole 1.4 unplated: 1(37.753,-18.863)
  round 0.85 hole 0.85: 2(2.54,0) 3(32.74,-37.72)
  round 0.5 smd: A2(3.366,-1.973) A3(4.366,-1.973) A4(5.366,-1.973) A5(6.366,-1.973) A6(7.366,-1.973) A7(8.366,-1.973) A8(9.366,-1.973) A9(10.366,-1.973) A10(11.366,-1.973) A11(12.366,-1.973) A12(13.366,-1.973) A13(14.366,-1.973) A14(15.366,-1.973) A15(16.366,-1.973) A16(17.366,-1.973) A17(18.366,-1.973) A18(19.366,-1.973) A19(20.366,-1.973) A20(21.366,-1.973) A21(22.366,-1.973) A22(23.366,-1.973) A23(24.366,-1.973) A24(25.366,-1.973) A25(26.366,-1.973) A26(27.366,-1.973) A27(28.366,-1.973) A28(29.366,-1.973) A29(30.366,-1.973) A30(31.366,-1.973) A31(32.366,-1.973) A32(33.366,-1.973) A33(34.366,-1.973) AA1(2.366,-21.973) AA2(3.366,-21.973) AA3(4.366,-21.973) AA4(5.366,-21.973) AA5(6.366,-21.973) AA6(7.366,-21.973) AA7(8.366,-21.973) AA8(9.366,-21.973) AA9(10.366,-21.973) AA10(11.366,-21.973) AA11(12.366,-21.973) AA12(13.366,-21.973) AA13(14.366,-21.973) AA14(15.366,-21.973) AA15(16.366,-21.973) AA16(17.366,-21.973) AA17(18.366,-21.973) AA18(19.366,-21.973) AA19(20.366,-21.973) AA20(21.366,-21.973) AA21(22.366,-21.973) AA22(23.366,-21.973) AA23(24.366,-21.973) AA24(25.366,-21.973) AA25(26.366,-21.973) AA26(27.366,-21.973) AA27(28.366,-21.973) AA28(29.366,-21.973) AA29(30.366,-21.973) AA30(31.366,-21.973) AA31(32.366,-21.973) AA32(33.366,-21.973) AA33(34.366,-21.973) AA34(35.366,-21.973) AB1(2.366,-22.973) AB2(3.366,-22.973) AB3(4.366,-22.973) AB4(5.366,-22.973) AB5(6.366,-22.973) AB6(7.366,-22.973) AB7(8.366,-22.973) AB8(9.366,-22.973) AB9(10.366,-22.973) AB10(11.366,-22.973) AB11(12.366,-22.973) AB12(13.366,-22.973) AB13(14.366,-22.973) AB14(15.366,-22.973) AB15(16.366,-22.973) AB16(17.366,-22.973) AB17(18.366,-22.973) AB18(19.366,-22.973) AB19(20.366,-22.973) AB20(21.366,-22.973) AB21(22.366,-22.973) AB22(23.366,-22.973) AB23(24.366,-22.973) AB24(25.366,-22.973) AB25(26.366,-22.973) AB26(27.366,-22.973) AB27(28.366,-22.973) AB28(29.366,-22.973) AB29(30.366,-22.973) AB30(31.366,-22.973) AB31(32.366,-22.973) AB32(33.366,-22.973) AB33(34.366,-22.973) AB34(35.366,-22.973) AC1(2.366,-23.973) AC2(3.366,-23.973) AC3(4.366,-23.973) AC4(5.366,-23.973) AC5(6.366,-23.973) AC6(7.366,-23.973) AC7(8.366,-23.973) AC8(9.366,-23.973) AC9(10.366,-23.973) AC10(11.366,-23.973) AC11(12.366,-23.973) AC12(13.366,-23.973) AC13(14.366,-23.973) AC14(15.366,-23.973) AC15(16.366,-23.973) AC16(17.366,-23.973) AC17(18.366,-23.973) AC18(19.366,-23.973) AC19(20.366,-23.973) AC20(21.366,-23.973) AC21(22.366,-23.973) AC22(23.366,-23.973) AC23(24.366,-23.973) AC24(25.366,-23.973) AC25(26.366,-23.973) AC26(27.366,-23.973) AC27(28.366,-23.973) AC28(29.366,-23.973) AC29(30.366,-23.973) AC30(31.366,-23.973) AC31(32.366,-23.973) AC32(33.366,-23.973) AC33(34.366,-23.973) AC34(35.366,-23.973) AD1(2.366,-24.973) AD2(3.366,-24.973) AD3(4.366,-24.973) AD4(5.366,-24.973) AD5(6.366,-24.973) AD6(7.366,-24.973) AD7(8.366,-24.973) AD8(9.366,-24.973) AD9(10.366,-24.973) AD10(11.366,-24.973) AD11(12.366,-24.973) AD12(13.366,-24.973) AD13(14.366,-24.973) AD14(15.366,-24.973) AD15(16.366,-24.973) AD16(17.366,-24.973) AD17(18.366,-24.973) AD18(19.366,-24.973) AD19(20.366,-24.973) AD20(21.366,-24.973) AD21(22.366,-24.973) AD22(23.366,-24.973) AD23(24.366,-24.973) AD24(25.366,-24.973) AD25(26.366,-24.973) AD26(27.366,-24.973) AD27(28.366,-24.973) AD28(29.366,-24.973) AD29(30.366,-24.973) AD30(31.366,-24.973) AD31(32.366,-24.973) AD32(33.366,-24.973) AD33(34.366,-24.973) AD34(35.366,-24.973) AE1(2.366,-25.973) AE2(3.366,-25.973) AE3(4.366,-25.973) AE4(5.366,-25.973) AE5(6.366,-25.973) AE6(7.366,-25.973) AE7(8.366,-25.973) AE8(9.366,-25.973) AE9(10.366,-25.973) AE10(11.366,-25.973) AE11(12.366,-25.973) AE12(13.366,-25.973) AE13(14.366,-25.973) AE14(15.366,-25.973) AE15(16.366,-25.973) AE16(17.366,-25.973) AE17(18.366,-25.973) AE18(19.366,-25.973) AE19(20.366,-25.973) AE20(21.366,-25.973) AE21(22.366,-25.973) AE22(23.366,-25.973) AE23(24.366,-25.973) AE24(25.366,-25.973) AE25(26.366,-25.973) AE26(27.366,-25.973) AE27(28.366,-25.973) AE28(29.366,-25.973) AE29(30.366,-25.973) AE30(31.366,-25.973) AE31(32.366,-25.973) AE32(33.366,-25.973) AE33(34.366,-25.973) AE34(35.366,-25.973) AF1(2.366,-26.973) AF2(3.366,-26.973) AF3(4.366,-26.973) AF4(5.366,-26.973) AF5(6.366,-26.973) AF6(7.366,-26.973) AF7(8.366,-26.973) AF8(9.366,-26.973) AF9(10.366,-26.973) AF10(11.366,-26.973) AF11(12.366,-26.973) AF12(13.366,-26.973) AF13(14.366,-26.973) AF14(15.366,-26.973) AF15(16.366,-26.973) AF16(17.366,-26.973) AF17(18.366,-26.973) AF18(19.366,-26.973) AF19(20.366,-26.973) AF20(21.366,-26.973) AF21(22.366,-26.973) AF22(23.366,-26.973) AF23(24.366,-26.973) AF24(25.366,-26.973) AF25(26.366,-26.973) AF26(27.366,-26.973) AF27(28.366,-26.973) AF28(29.366,-26.973) AF29(30.366,-26.973) AF30(31.366,-26.973) AF31(32.366,-26.973) AF32(33.366,-26.973) AF33(34.366,-26.973) AF34(35.366,-26.973) AG1(2.366,-27.973) AG2(3.366,-27.973) AG3(4.366,-27.973) AG4(5.366,-27.973) AG5(6.366,-27.973) AG6(7.366,-27.973) AG7(8.366,-27.973) AG8(9.366,-27.973) AG9(10.366,-27.973) AG10(11.366,-27.973) AG11(12.366,-27.973) AG12(13.366,-27.973) AG13(14.366,-27.973) AG14(15.366,-27.973) AG15(16.366,-27.973) AG16(17.366,-27.973) AG17(18.366,-27.973) AG18(19.366,-27.973) AG19(20.366,-27.973) AG20(21.366,-27.973) AG21(22.366,-27.973) AG22(23.366,-27.973) AG23(24.366,-27.973) AG24(25.366,-27.973) AG25(26.366,-27.973) AG26(27.366,-27.973) AG27(28.366,-27.973) AG28(29.366,-27.973) AG29(30.366,-27.973) AG30(31.366,-27.973) AG31(32.366,-27.973) AG32(33.366,-27.973) AG33(34.366,-27.973) AG34(35.366,-27.973) AH1(2.366,-28.973) AH2(3.366,-28.973) AH3(4.366,-28.973) AH4(5.366,-28.973) AH5(6.366,-28.973) AH6(7.366,-28.973) AH7(8.366,-28.973) AH8(9.366,-28.973) AH9(10.366,-28.973) AH10(11.366,-28.973) AH11(12.366,-28.973) AH12(13.366,-28.973) AH13(14.366,-28.973) AH14(15.366,-28.973) AH15(16.366,-28.973) AH16(17.366,-28.973) AH17(18.366,-28.973) AH18(19.366,-28.973) AH19(20.366,-28.973) AH20(21.366,-28.973) AH21(22.366,-28.973) AH22(23.366,-28.973) AH23(24.366,-28.973) AH24(25.366,-28.973) AH25(26.366,-28.973) AH26(27.366,-28.973) AH27(28.366,-28.973) AH28(29.366,-28.973) AH29(30.366,-28.973) AH30(31.366,-28.973) AH31(32.366,-28.973) AH32(33.366,-28.973) AH33(34.366,-28.973) AH34(35.366,-28.973) AJ1(2.366,-29.973) AJ2(3.366,-29.973) AJ3(4.366,-29.973) AJ4(5.366,-29.973) AJ5(6.366,-29.973) AJ6(7.366,-29.973) AJ7(8.366,-29.973) AJ8(9.366,-29.973) AJ9(10.366,-29.973) AJ10(11.366,-29.973) AJ11(12.366,-29.973) AJ12(13.366,-29.973) AJ13(14.366,-29.973) AJ14(15.366,-29.973) AJ15(16.366,-29.973) AJ16(17.366,-29.973) AJ17(18.366,-29.973) AJ18(19.366,-29.973) AJ19(20.366,-29.973) AJ20(21.366,-29.973) AJ21(22.366,-29.973) AJ22(23.366,-29.973) AJ23(24.366,-29.973) AJ24(25.366,-29.973) AJ25(26.366,-29.973) AJ26(27.366,-29.973) AJ27(28.366,-29.973) AJ28(29.366,-29.973) AJ29(30.366,-29.973) AJ30(31.366,-29.973) AJ31(32.366,-29.973) AJ32(33.366,-29.973) AJ33(34.366,-29.973) AJ34(35.366,-29.973) AK1(2.366,-30.973) AK2(3.366,-30.973) AK3(4.366,-30.973) AK4(5.366,-30.973) AK5(6.366,-30.973) AK6(7.366,-30.973) AK7(8.366,-30.973) AK8(9.366,-30.973) AK9(10.366,-30.973) AK10(11.366,-30.973) AK11(12.366,-30.973) AK12(13.366,-30.973) AK13(14.366,-30.973) AK14(15.366,-30.973) AK15(16.366,-30.973) AK16(17.366,-30.973) AK17(18.366,-30.973) AK18(19.366,-30.973) AK19(20.366,-30.973) AK20(21.366,-30.973) AK21(22.366,-30.973) AK22(23.366,-30.973) AK23(24.366,-30.973) AK24(25.366,-30.973) AK25(26.366,-30.973) AK26(27.366,-30.973) AK27(28.366,-30.973) AK28(29.366,-30.973) AK29(30.366,-30.973) AK30(31.366,-30.973) AK31(32.366,-30.973) AK32(33.366,-30.973) AK33(34.366,-30.973) AK34(35.366,-30.973) AL1(2.366,-31.973) AL2(3.366,-31.973) AL3(4.366,-31.973) AL4(5.366,-31.973) AL5(6.366,-31.973) AL6(7.366,-31.973) AL7(8.366,-31.973) AL8(9.366,-31.973) AL9(10.366,-31.973) AL10(11.366,-31.973) AL11(12.366,-31.973) AL12(13.366,-31.973) AL13(14.366,-31.973) AL14(15.366,-31.973) AL15(16.366,-31.973) AL16(17.366,-31.973) AL17(18.366,-31.973) AL18(19.366,-31.973) AL19(20.366,-31.973) AL20(21.366,-31.973) AL21(22.366,-31.973) AL22(23.366,-31.973) AL23(24.366,-31.973) AL24(25.366,-31.973) AL25(26.366,-31.973) AL26(27.366,-31.973) AL27(28.366,-31.973) AL28(29.366,-31.973) AL29(30.366,-31.973) AL30(31.366,-31.973) AL31(32.366,-31.973) AL32(33.366,-31.973) AL33(34.366,-31.973) AL34(35.366,-31.973) AM1(2.366,-32.973) AM2(3.366,-32.973) AM3(4.366,-32.973) AM4(5.366,-32.973) AM5(6.366,-32.973) AM6(7.366,-32.973) AM7(8.366,-32.973) AM8(9.366,-32.973) AM9(10.366,-32.973) AM10(11.366,-32.973) AM11(12.366,-32.973) AM12(13.366,-32.973) AM13(14.366,-32.973) AM14(15.366,-32.973) AM15(16.366,-32.973) AM16(17.366,-32.973) AM17(18.366,-32.973) AM18(19.366,-32.973) AM19(20.366,-32.973) AM20(21.366,-32.973) AM21(22.366,-32.973) AM22(23.366,-32.973) AM23(24.366,-32.973) AM24(25.366,-32.973) AM25(26.366,-32.973) AM26(27.366,-32.973) AM27(28.366,-32.973) AM28(29.366,-32.973) AM29(30.366,-32.973) AM30(31.366,-32.973) AM31(32.366,-32.973) AM32(33.366,-32.973) AM33(34.366,-32.973) AM34(35.366,-32.973) AN1(2.366,-33.973) AN2(3.366,-33.973) AN3(4.366,-33.973) AN4(5.366,-33.973) AN5(6.366,-33.973) AN6(7.366,-33.973) AN7(8.366,-33.973) AN8(9.366,-33.973) AN9(10.366,-33.973) AN10(11.366,-33.973) AN11(12.366,-33.973) AN12(13.366,-33.973) AN13(14.366,-33.973) AN14(15.366,-33.973) AN15(16.366,-33.973) AN16(17.366,-33.973) AN17(18.366,-33.973) AN18(19.366,-33.973) AN19(20.366,-33.973) AN20(21.366,-33.973) AN21(22.366,-33.973) AN22(23.366,-33.973) AN23(24.366,-33.973) AN24(25.366,-33.973) AN25(26.366,-33.973) AN26(27.366,-33.973) AN27(28.366,-33.973) AN28(29.366,-33.973) AN29(30.366,-33.973) AN30(31.366,-33.973) AN31(32.366,-33.973) AN32(33.366,-33.973) AN33(34.366,-33.973) AN34(35.366,-33.973) AP2(3.366,-34.973) AP3(4.366,-34.973) AP4(5.366,-34.973) AP5(6.366,-34.973) AP6(7.366,-34.973) AP7(8.366,-34.973) AP8(9.366,-34.973) AP9(10.366,-34.973) AP10(11.366,-34.973) AP11(12.366,-34.973) AP12(13.366,-34.973) AP13(14.366,-34.973) AP14(15.366,-34.973) AP15(16.366,-34.973) AP16(17.366,-34.973) AP17(18.366,-34.973) AP18(19.366,-34.973) AP19(20.366,-34.973) AP20(21.366,-34.973) AP21(22.366,-34.973) AP22(23.366,-34.973) AP23(24.366,-34.973) AP24(25.366,-34.973) AP25(26.366,-34.973) AP26(27.366,-34.973) AP27(28.366,-34.973) AP28(29.366,-34.973) AP29(30.366,-34.973) AP30(31.366,-34.973) AP31(32.366,-34.973) AP32(33.366,-34.973) AP33(34.366,-34.973) B1(2.366,-2.973) B2(3.366,-2.973) B3(4.366,-2.973) B4(5.366,-2.973) B5(6.366,-2.973) B6(7.366,-2.973) B7(8.366,-2.973) B8(9.366,-2.973) B9(10.366,-2.973) B10(11.366,-2.973) B11(12.366,-2.973) B12(13.366,-2.973) B13(14.366,-2.973) B14(15.366,-2.973) B15(16.366,-2.973) B16(17.366,-2.973) B17(18.366,-2.973) B18(19.366,-2.973) B19(20.366,-2.973) B20(21.366,-2.973) B21(22.366,-2.973) B22(23.366,-2.973) B23(24.366,-2.973) B24(25.366,-2.973) B25(26.366,-2.973) B26(27.366,-2.973) B27(28.366,-2.973) B28(29.366,-2.973) B29(30.366,-2.973) B30(31.366,-2.973) B31(32.366,-2.973) B32(33.366,-2.973) B33(34.366,-2.973) B34(35.366,-2.973) C1(2.366,-3.973) C2(3.366,-3.973) C3(4.366,-3.973) C4(5.366,-3.973) C5(6.366,-3.973) C6(7.366,-3.973) C7(8.366,-3.973) C8(9.366,-3.973) C9(10.366,-3.973) C10(11.366,-3.973) C11(12.366,-3.973) C12(13.366,-3.973) C13(14.366,-3.973) C14(15.366,-3.973) C15(16.366,-3.973) C16(17.366,-3.973) C17(18.366,-3.973) C18(19.366,-3.973) C19(20.366,-3.973) C20(21.366,-3.973) C21(22.366,-3.973) C22(23.366,-3.973) C23(24.366,-3.973) C24(25.366,-3.973) C25(26.366,-3.973) C26(27.366,-3.973) C27(28.366,-3.973) C28(29.366,-3.973) C29(30.366,-3.973) C30(31.366,-3.973) C31(32.366,-3.973) C32(33.366,-3.973) C33(34.366,-3.973) C34(35.366,-3.973) D1(2.366,-4.973) D2(3.366,-4.973) D3(4.366,-4.973) D4(5.366,-4.973) D5(6.366,-4.973) D6(7.366,-4.973) D7(8.366,-4.973) D8(9.366,-4.973) D9(10.366,-4.973) D10(11.366,-4.973) D11(12.366,-4.973) D12(13.366,-4.973) D13(14.366,-4.973) D14(15.366,-4.973) D15(16.366,-4.973) D16(17.366,-4.973) D17(18.366,-4.973) D18(19.366,-4.973) D19(20.366,-4.973) D20(21.366,-4.973) D21(22.366,-4.973) D22(23.366,-4.973) D23(24.366,-4.973) D24(25.366,-4.973) D25(26.366,-4.973) D26(27.366,-4.973) D27(28.366,-4.973) D28(29.366,-4.973) D29(30.366,-4.973) D30(31.366,-4.973) D31(32.366,-4.973) D32(33.366,-4.973) D33(34.366,-4.973) D34(35.366,-4.973) E1(2.366,-5.973) E2(3.366,-5.973) E3(4.366,-5.973) E4(5.366,-5.973) E5(6.366,-5.973) E6(7.366,-5.973) E7(8.366,-5.973) E8(9.366,-5.973) E9(10.366,-5.973) E10(11.366,-5.973) E11(12.366,-5.973) E12(13.366,-5.973) E13(14.366,-5.973) E14(15.366,-5.973) E15(16.366,-5.973) E16(17.366,-5.973) E17(18.366,-5.973) E18(19.366,-5.973) E19(20.366,-5.973) E20(21.366,-5.973) E21(22.366,-5.973) E22(23.366,-5.973) E23(24.366,-5.973) E24(25.366,-5.973) E25(26.366,-5.973) E26(27.366,-5.973) E27(28.366,-5.973) E28(29.366,-5.973) E29(30.366,-5.973) E30(31.366,-5.973) E31(32.366,-5.973) E32(33.366,-5.973) E33(34.366,-5.973) E34(35.366,-5.973) F1(2.366,-6.973) F2(3.366,-6.973) F3(4.366,-6.973) F4(5.366,-6.973) F5(6.366,-6.973) F6(7.366,-6.973) F7(8.366,-6.973) F8(9.366,-6.973) F9(10.366,-6.973) F10(11.366,-6.973) F11(12.366,-6.973) F12(13.366,-6.973) F13(14.366,-6.973) F14(15.366,-6.973) F15(16.366,-6.973) F16(17.366,-6.973) F17(18.366,-6.973) F18(19.366,-6.973) F19(20.366,-6.973) F20(21.366,-6.973) F21(22.366,-6.973) F22(23.366,-6.973) F23(24.366,-6.973) F24(25.366,-6.973) F25(26.366,-6.973) F26(27.366,-6.973) F27(28.366,-6.973) F28(29.366,-6.973) F29(30.366,-6.973) F30(31.366,-6.973) F31(32.366,-6.973) F32(33.366,-6.973) F33(34.366,-6.973) F34(35.366,-6.973) G1(2.366,-7.973) G2(3.366,-7.973) G3(4.366,-7.973) G4(5.366,-7.973) G5(6.366,-7.973) G6(7.366,-7.973) G7(8.366,-7.973) G8(9.366,-7.973) G9(10.366,-7.973) G10(11.366,-7.973) G11(12.366,-7.973) G12(13.366,-7.973) G13(14.366,-7.973) G14(15.366,-7.973) G15(16.366,-7.973) G16(17.366,-7.973) G17(18.366,-7.973) G18(19.366,-7.973) G19(20.366,-7.973) G20(21.366,-7.973) G21(22.366,-7.973) G22(23.366,-7.973) G23(24.366,-7.973) G24(25.366,-7.973) G25(26.366,-7.973) G26(27.366,-7.973) G27(28.366,-7.973) G28(29.366,-7.973) G29(30.366,-7.973) G30(31.366,-7.973) G31(32.366,-7.973) G32(33.366,-7.973) G33(34.366,-7.973) G34(35.366,-7.973) H1(2.366,-8.973) H2(3.366,-8.973) H3(4.366,-8.973) H4(5.366,-8.973) H5(6.366,-8.973) H6(7.366,-8.973) H7(8.366,-8.973) H8(9.366,-8.973) H9(10.366,-8.973) H10(11.366,-8.973) H11(12.366,-8.973) H12(13.366,-8.973) H13(14.366,-8.973) H14(15.366,-8.973) H15(16.366,-8.973) H16(17.366,-8.973) H17(18.366,-8.973) H18(19.366,-8.973) H19(20.366,-8.973) H20(21.366,-8.973) H21(22.366,-8.973) H22(23.366,-8.973) H23(24.366,-8.973) H24(25.366,-8.973) H25(26.366,-8.973) H26(27.366,-8.973) H27(28.366,-8.973) H28(29.366,-8.973) H29(30.366,-8.973) H30(31.366,-8.973) H31(32.366,-8.973) H32(33.366,-8.973) H33(34.366,-8.973) H34(35.366,-8.973) J1(2.366,-9.973) J2(3.366,-9.973) J3(4.366,-9.973) J4(5.366,-9.973) J5(6.366,-9.973) J6(7.366,-9.973) J7(8.366,-9.973) J8(9.366,-9.973) J9(10.366,-9.973) J10(11.366,-9.973) J11(12.366,-9.973) J12(13.366,-9.973) J13(14.366,-9.973) J14(15.366,-9.973) J15(16.366,-9.973) J16(17.366,-9.973) J17(18.366,-9.973) J18(19.366,-9.973) J19(20.366,-9.973) J20(21.366,-9.973) J21(22.366,-9.973) J22(23.366,-9.973) J23(24.366,-9.973) J24(25.366,-9.973) J25(26.366,-9.973) J26(27.366,-9.973) J27(28.366,-9.973) J28(29.366,-9.973) J29(30.366,-9.973) J30(31.366,-9.973) J31(32.366,-9.973) J32(33.366,-9.973) J33(34.366,-9.973) J34(35.366,-9.973) K1(2.366,-10.973) K2(3.366,-10.973) K3(4.366,-10.973) K4(5.366,-10.973) K5(6.366,-10.973) K6(7.366,-10.973) K7(8.366,-10.973) K8(9.366,-10.973) K9(10.366,-10.973) K10(11.366,-10.973) K11(12.366,-10.973) K12(13.366,-10.973) K13(14.366,-10.973) K14(15.366,-10.973) K15(16.366,-10.973) K16(17.366,-10.973) K17(18.366,-10.973) K18(19.366,-10.973) K19(20.366,-10.973) K20(21.366,-10.973) K21(22.366,-10.973) K22(23.366,-10.973) K23(24.366,-10.973) K24(25.366,-10.973) K25(26.366,-10.973) K26(27.366,-10.973) K27(28.366,-10.973) K28(29.366,-10.973) K29(30.366,-10.973) K30(31.366,-10.973) K31(32.366,-10.973) K32(33.366,-10.973) K33(34.366,-10.973) K34(35.366,-10.973) L1(2.366,-11.973) L2(3.366,-11.973) L3(4.366,-11.973) L4(5.366,-11.973) L5(6.366,-11.973) L6(7.366,-11.973) L7(8.366,-11.973) L8(9.366,-11.973) L9(10.366,-11.973) L10(11.366,-11.973) L11(12.366,-11.973) L12(13.366,-11.973) L13(14.366,-11.973) L14(15.366,-11.973) L15(16.366,-11.973) L16(17.366,-11.973) L17(18.366,-11.973) L18(19.366,-11.973) L19(20.366,-11.973) L20(21.366,-11.973) L21(22.366,-11.973) L22(23.366,-11.973) L23(24.366,-11.973) L24(25.366,-11.973) L25(26.366,-11.973) L26(27.366,-11.973) L27(28.366,-11.973) L28(29.366,-11.973) L29(30.366,-11.973) L30(31.366,-11.973) L31(32.366,-11.973) L32(33.366,-11.973) L33(34.366,-11.973) L34(35.366,-11.973) M1(2.366,-12.973) M2(3.366,-12.973) M3(4.366,-12.973) M4(5.366,-12.973) M5(6.366,-12.973) M6(7.366,-12.973) M7(8.366,-12.973) M8(9.366,-12.973) M9(10.366,-12.973) M10(11.366,-12.973) M11(12.366,-12.973) M12(13.366,-12.973) M13(14.366,-12.973) M14(15.366,-12.973) M15(16.366,-12.973) M16(17.366,-12.973) M17(18.366,-12.973) M18(19.366,-12.973) M19(20.366,-12.973) M20(21.366,-12.973) M21(22.366,-12.973) M22(23.366,-12.973) M23(24.366,-12.973) M24(25.366,-12.973) M25(26.366,-12.973) M26(27.366,-12.973) M27(28.366,-12.973) M28(29.366,-12.973) M29(30.366,-12.973) M30(31.366,-12.973) M31(32.366,-12.973) M32(33.366,-12.973) M33(34.366,-12.973) M34(35.366,-12.973) N1(2.366,-13.973) N2(3.366,-13.973) N3(4.366,-13.973) N4(5.366,-13.973) N5(6.366,-13.973) N6(7.366,-13.973) N7(8.366,-13.973) N8(9.366,-13.973) N9(10.366,-13.973) N10(11.366,-13.973) N11(12.366,-13.973) N12(13.366,-13.973) N13(14.366,-13.973) N14(15.366,-13.973) N15(16.366,-13.973) N16(17.366,-13.973) N17(18.366,-13.973) N18(19.366,-13.973) N19(20.366,-13.973) N20(21.366,-13.973) N21(22.366,-13.973) N22(23.366,-13.973) N23(24.366,-13.973) N24(25.366,-13.973) N25(26.366,-13.973) N26(27.366,-13.973) N27(28.366,-13.973) N28(29.366,-13.973) N29(30.366,-13.973) N30(31.366,-13.973) N31(32.366,-13.973) N32(33.366,-13.973) N33(34.366,-13.973) N34(35.366,-13.973) P1(2.366,-14.973) P2(3.366,-14.973) P3(4.366,-14.973) P4(5.366,-14.973) P5(6.366,-14.973) P6(7.366,-14.973) P7(8.366,-14.973) P8(9.366,-14.973) P9(10.366,-14.973) P10(11.366,-14.973) P11(12.366,-14.973) P12(13.366,-14.973) P13(14.366,-14.973) P14(15.366,-14.973) P15(16.366,-14.973) P16(17.366,-14.973) P17(18.366,-14.973) P18(19.366,-14.973) P19(20.366,-14.973) P20(21.366,-14.973) P21(22.366,-14.973) P22(23.366,-14.973) P23(24.366,-14.973) P24(25.366,-14.973) P25(26.366,-14.973) P26(27.366,-14.973) P27(28.366,-14.973) P28(29.366,-14.973) P29(30.366,-14.973) P30(31.366,-14.973) P31(32.366,-14.973) P32(33.366,-14.973) P33(34.366,-14.973) P34(35.366,-14.973) R1(2.366,-15.973) R2(3.366,-15.973) R3(4.366,-15.973) R4(5.366,-15.973) R5(6.366,-15.973) R6(7.366,-15.973) R7(8.366,-15.973) R8(9.366,-15.973) R9(10.366,-15.973) R10(11.366,-15.973) R11(12.366,-15.973) R12(13.366,-15.973) R13(14.366,-15.973) R14(15.366,-15.973) R15(16.366,-15.973) R16(17.366,-15.973) R17(18.366,-15.973) R18(19.366,-15.973) R19(20.366,-15.973) R20(21.366,-15.973) R21(22.366,-15.973) R22(23.366,-15.973) R23(24.366,-15.973) R24(25.366,-15.973) R25(26.366,-15.973) R26(27.366,-15.973) R27(28.366,-15.973) R28(29.366,-15.973) R29(30.366,-15.973) R30(31.366,-15.973) R31(32.366,-15.973) R32(33.366,-15.973) R33(34.366,-15.973) R34(35.366,-15.973) T1(2.366,-16.973) T2(3.366,-16.973) T3(4.366,-16.973) T4(5.366,-16.973) T5(6.366,-16.973) T6(7.366,-16.973) T7(8.366,-16.973) T8(9.366,-16.973) T9(10.366,-16.973) T10(11.366,-16.973) T11(12.366,-16.973) T12(13.366,-16.973) T13(14.366,-16.973) T14(15.366,-16.973) T15(16.366,-16.973) T16(17.366,-16.973) T17(18.366,-16.973) T18(19.366,-16.973) T19(20.366,-16.973) T20(21.366,-16.973) T21(22.366,-16.973) T22(23.366,-16.973) T23(24.366,-16.973) T24(25.366,-16.973) T25(26.366,-16.973) T26(27.366,-16.973) T27(28.366,-16.973) T28(29.366,-16.973) T29(30.366,-16.973) T30(31.366,-16.973) T31(32.366,-16.973) T32(33.366,-16.973) T33(34.366,-16.973) T34(35.366,-16.973) U1(2.366,-17.973) U2(3.366,-17.973) U3(4.366,-17.973) U4(5.366,-17.973) U5(6.366,-17.973) U6(7.366,-17.973) U7(8.366,-17.973) U8(9.366,-17.973) U9(10.366,-17.973) U10(11.366,-17.973) U11(12.366,-17.973) U12(13.366,-17.973) U13(14.366,-17.973) U14(15.366,-17.973) U15(16.366,-17.973) U16(17.366,-17.973) U17(18.366,-17.973) U18(19.366,-17.973) U19(20.366,-17.973) U20(21.366,-17.973) U21(22.366,-17.973) U22(23.366,-17.973) U23(24.366,-17.973) U24(25.366,-17.973) U25(26.366,-17.973) U26(27.366,-17.973) U27(28.366,-17.973) U28(29.366,-17.973) U29(30.366,-17.973) U30(31.366,-17.973) U31(32.366,-17.973) U32(33.366,-17.973) U33(34.366,-17.973) U34(35.366,-17.973) V1(2.366,-18.973) V2(3.366,-18.973) V3(4.366,-18.973) V4(5.366,-18.973) V5(6.366,-18.973) V6(7.366,-18.973) V7(8.366,-18.973) V8(9.366,-18.973) V9(10.366,-18.973) V10(11.366,-18.973) V11(12.366,-18.973) V12(13.366,-18.973) V13(14.366,-18.973) V14(15.366,-18.973) V15(16.366,-18.973) V16(17.366,-18.973) V17(18.366,-18.973) V18(19.366,-18.973) V19(20.366,-18.973) V20(21.366,-18.973) V21(22.366,-18.973) V22(23.366,-18.973) V23(24.366,-18.973) V24(25.366,-18.973) V25(26.366,-18.973) V26(27.366,-18.973) V27(28.366,-18.973) V28(29.366,-18.973) V29(30.366,-18.973) V30(31.366,-18.973) V31(32.366,-18.973) V32(33.366,-18.973) V33(34.366,-18.973) V34(35.366,-18.973) W1(2.366,-19.973) W2(3.366,-19.973) W3(4.366,-19.973) W4(5.366,-19.973) W5(6.366,-19.973) W6(7.366,-19.973) W7(8.366,-19.973) W8(9.366,-19.973) W9(10.366,-19.973) W10(11.366,-19.973) W11(12.366,-19.973) W12(13.366,-19.973) W13(14.366,-19.973) W14(15.366,-19.973) W15(16.366,-19.973) W16(17.366,-19.973) W17(18.366,-19.973) W18(19.366,-19.973) W19(20.366,-19.973) W20(21.366,-19.973) W21(22.366,-19.973) W22(23.366,-19.973) W23(24.366,-19.973) W24(25.366,-19.973) W25(26.366,-19.973) W26(27.366,-19.973) W27(28.366,-19.973) W28(29.366,-19.973) W29(30.366,-19.973) W30(31.366,-19.973) W31(32.366,-19.973) W32(33.366,-19.973) W33(34.366,-19.973) W34(35.366,-19.973) Y1(2.366,-20.973) Y2(3.366,-20.973) Y3(4.366,-20.973) Y4(5.366,-20.973) Y5(6.366,-20.973) Y6(7.366,-20.973) Y7(8.366,-20.973) Y8(9.366,-20.973) Y9(10.366,-20.973) Y10(11.366,-20.973) Y11(12.366,-20.973) Y12(13.366,-20.973) Y13(14.366,-20.973) Y14(15.366,-20.973) Y15(16.366,-20.973) Y16(17.366,-20.973) Y17(18.366,-20.973) Y18(19.366,-20.973) Y19(20.366,-20.973) Y20(21.366,-20.973) Y21(22.366,-20.973) Y22(23.366,-20.973) Y23(24.366,-20.973) Y24(25.366,-20.973) Y25(26.366,-20.973) Y26(27.366,-20.973) Y27(28.366,-20.973) Y28(29.366,-20.973) Y29(30.366,-20.973) Y30(31.366,-20.973) Y31(32.366,-20.973) Y32(33.366,-20.973) Y33(34.366,-20.973) Y34(35.366,-20.973)
Top Layer:
  lines w0.15: 29.366,-8.983 29.366,-8.973 ; 31.366,-3.983 31.366,-3.973 ; 33.303,-32.973 33.366,-32.973 ; 29.366,-8.973 29.366,-8.973 ; 9.366,-3.973 9.366,-3.973 ; 11.366,-25.973 11.366,-25.973 ; 27.366,-9.973 27.366,-9.973 ; 28.366,-3.973 28.366,-3.973
Top Overlay:
  circle w0.25: c0.716,-1.973 r0.125
  lines w0.1: -2.87,-39.835 39.855,-39.835 39.855,2.89 -2.87,2.89 -2.87,-39.835 ; -1.25,-38.97 38.975,-38.97 38.975,1.255 -1.25,1.255 -1.25,-38.97
  lines w0.2: -8.883,-44.079 46.117,-44.079 46.117,4.921 -8.883,4.921 -8.883,-44.079 ; 1.366,-34.973 1.366,-0.973 35.366,-0.973 36.366,-1.973 36.366,-34.973 35.366,-35.973 2.366,-35.973 1.366,-34.973
Mechanical 3:
  lines w0.1: -1.213,-34.973 3.366,-34.973 ; -0.37,-37.366 4.244,-37.366 ; 0,-37.72 18.85,-37.72 18.853,-37.717 37.753,-37.717 ; 0,-18.86 37.75,-18.86 ; 2.366,-38.284 2.366,-33.973 ; 18.86,-37.75 18.86,-37.359 18.86,-34.97 18.86,-1.97